# Altium footprint library MOD_RCM05_SAM3_v1.1_19X37.pcblib: 1 footprints
Each footprint in its own frame and in the unit in brackets; x right, y up, seen from the top. Pads: shape width x height; smd on the part's side, far side on the other; paste and mask are expansions set on the pad; w line width, h text height; cw(c..) or ccw(c..) is an arc to the next point about the centre after c.
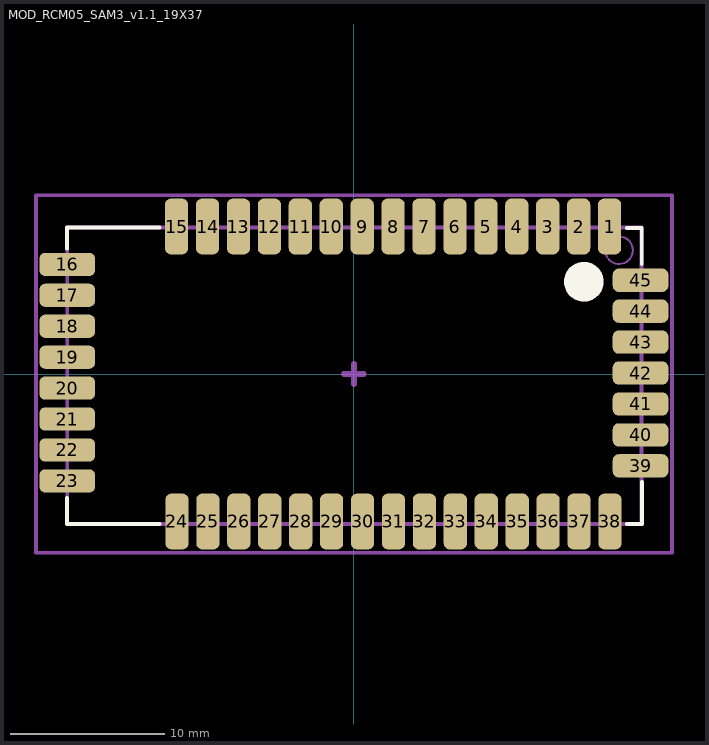
[diagram p0: the footprint, top view; thin cyan lines are the x and y axes]

## MOD_RCM05_SAM3_v1.1_19X37 [mm]
pads (45):
  rrect50% 1.5x3.6 smd paste-2.54: 1(16.535,9.538) 2(14.535,9.538) 3(12.535,9.538) 4(10.535,9.538) 5(8.535,9.538) 6(6.535,9.538) 7(4.535,9.538) 8(2.535,9.538) 9(0.535,9.538) 10(-1.465,9.538) 11(-3.465,9.538) 12(-5.465,9.538) 13(-7.465,9.538) 14(-9.465,9.538) 15(-11.465,9.538) 24(-11.44,-9.537) 25(-9.44,-9.537) 26(-7.44,-9.537) 27(-5.44,-9.537) 28(-3.44,-9.537) 29(-1.44,-9.537) 30(0.56,-9.537) 31(2.56,-9.537) 32(4.56,-9.537) 33(6.56,-9.537) 34(8.56,-9.537) 35(10.56,-9.537) 36(12.56,-9.537) 37(14.56,-9.537) 38(16.56,-9.537)
  rrect50% 3.6x1.5 smd paste-2.54: 16(-18.535,7.087) 17(-18.535,5.087) 18(-18.535,3.087) 19(-18.535,1.087) 20(-18.535,-0.913) 21(-18.535,-2.913) 22(-18.535,-4.913) 23(-18.535,-6.913) 39(18.535,-5.937) 40(18.535,-3.937) 41(18.535,-1.937) 42(18.535,0.063) 43(18.535,2.063) 44(18.535,4.063) 45(18.535,6.063)
Top Overlay:
  circle w1.27: c14.866,5.969 r0.648
  lines w0.254: -18.54,-8.001 -18.54,-9.711 -12.566,-9.711 ; -18.54,8.128 -18.54,9.467 -12.566,9.467 ; 17.66,-9.711 18.624,-9.711 18.624,-6.985 ; 17.66,9.434 18.613,9.434 18.613,7.112
Mechanical 13:
  circle w0.127: c17.152,8.001 r0.889
  lines w0.254: 18.585,9.467 -18.535,9.467 -18.535,-9.711 18.61,-9.711 18.61,9.446
Mechanical 15:
  lines w0.254: -20.567,-11.557 -20.567,11.557 20.581,11.557 20.581,-11.557 -20.567,-11.557
  lines w0.381: -0.635,0 0.635,0 ; 0,-0.635 0,0.635
Mechanical 17:
  text "'.Designator'" at -17.145,2.286 h2.54
Mechanical 19:
  text "'.Comment'" at -17.272,-2.667 h2.54
3D body "RCM-05-SAM3.step": height 2.6, standoff 0.08, extent -19.51,-10.533 19.578,10.467